# Altium footprint library DF51K-4P-2DS(800).PcbLib: 1 footprints
Each footprint in its own frame and in the unit in brackets; x right, y up, seen from the top. Pads: shape width x height; smd on the part's side, far side on the other; paste and mask are expansions set on the pad; w line width, h text height; cw(c..) or ccw(c..) is an arc to the next point about the centre after c.
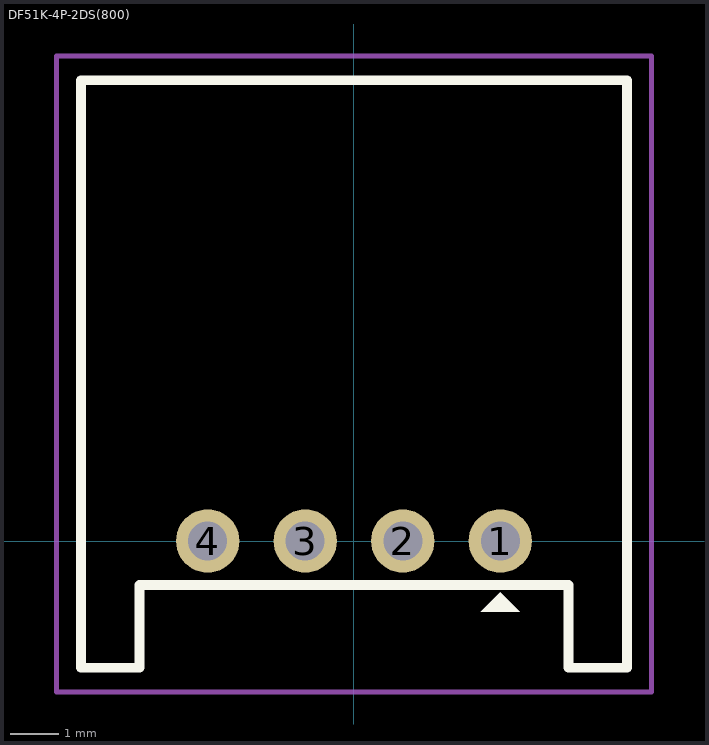
[diagram p0: the footprint, top view; thin cyan lines are the x and y axes]

## DF51K-4P-2DS(800) [mm]
pads (4):
  round 1.3 hole 0.8: 1(3,0) 2(1,0) 3(-1,0) 4(-3,0)
Top Overlay:
  region: 3.4,-1.45 2.6,-1.45 3,-1.05
  lines w0.2: -5.6,-2.6 -4.4,-2.6 -4.4,-0.9 4.4,-0.9 4.4,-2.6 5.6,-2.6 5.6,9.45 -5.6,9.45 -5.6,-2.6
Top Courtyard:
  lines w0.1: -6.1,-3.1 -6.1,9.95 6.1,9.95 6.1,-3.1 5.6,-3.1 -6.1,-3.1
3D body "DF51K-4P-2DS(800)_CL0480-0589-0-00_3DDrawing_STEP_DF51K-4P-2DS_4800589000_3D_stp.stp": height 6.43, standoff -2.87, extent -5.6,-2.6 5.6,9.45